# Altium schematic symbol library Acoustics.SchLib: 19 symbols
Pins are listed as number, name and electrical type; pins without a type are passive.

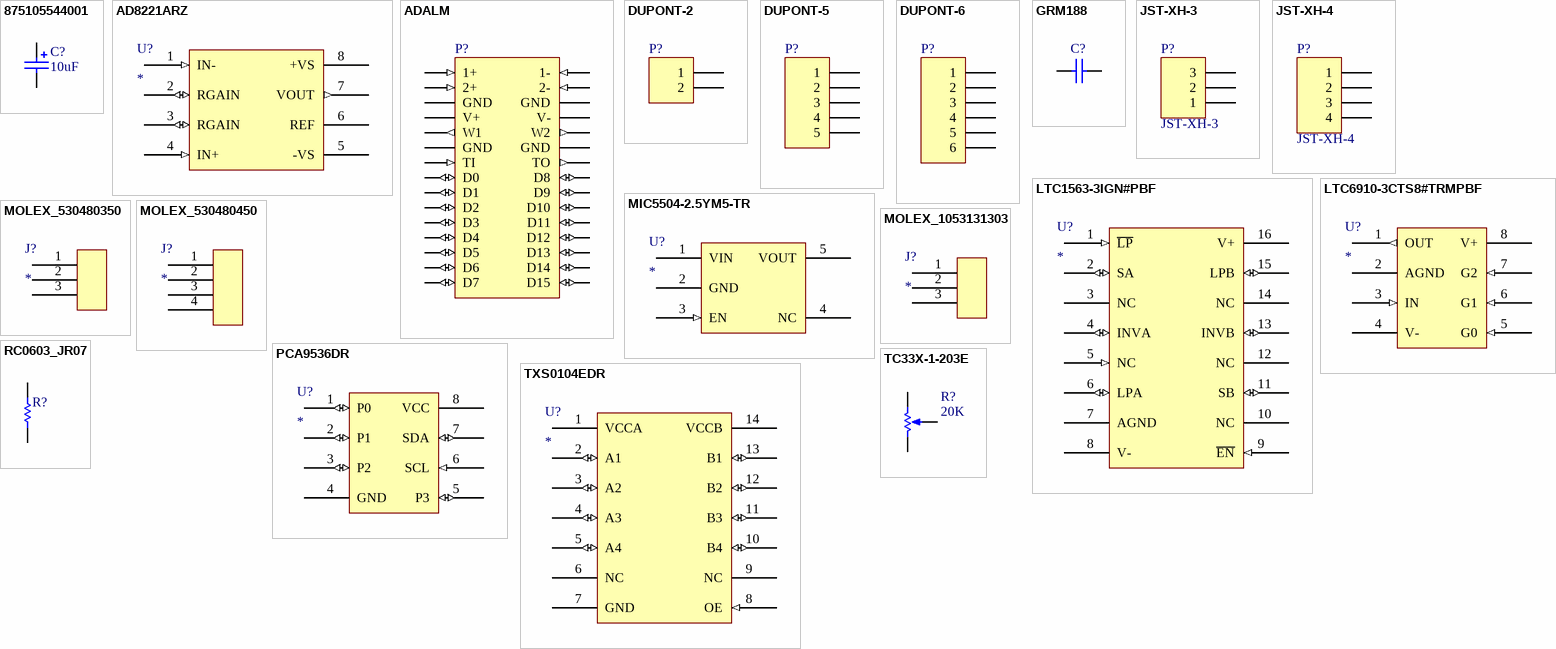
[diagram p0: symbols 875105544001 to TXS0104EDR]

## 875105544001
designator C?, comment 10uF
CAP ALUM POLY 10UF 20% 25V SMD; Published: 8-Jun-2000; LatestRevisionDate: 17-Jul-2002; LatestRevisionNote: Re-released for DXP Platform.; PackageReference: RB7.6-15; Publisher: Altium Limited; PackageDescription: Polarized Capacitor (Radial); 2 Leads; Value: 10uF
simulation model CAP (Capacitor)
signal-integrity model Cap Pol
footprint CAPAE7666X58M (Aluminum Electrolytic Capacitor, Body 6.60x6.60x5.80mm, IPC Low Density)
pins: 1, 2
1 alternate drawing of the same symbol

## AD8221ARZ
designator U?
IC INST AMP 1 CIRCUIT 8SOIC; ComponentLink1Description: New link; ComponentLink1URL: https://www.analog.com/media/en/technical-documentation/data-sheets/AD8221.pdf
footprint SOIC127P600X150-8M (SOIC, 8-Leads, Body 4.90x3.90mm, Pitch 1.27mm, IPC Low Density)
pins: 1 IN- (in), 2 RGAIN (io), 3 RGAIN (io), 4 IN+ (in), 5 -VS (power), 6 REF (power), 7 VOUT (out), 8 +VS (power)

## ADALM
designator P?
Vertical ADALM2000 2x15 Header; LatestRevisionDate: 17-Jul-2002; LatestRevisionNote: Re-released for DXP Platform.; Publisher: Altium Limited
signal-integrity model Connector
footprint ADALM
pins: 1 1+ (in), 2 1- (in), 3 2+ (in), 4 2- (in), 5 GND (power), 6 GND (power), 7 V+ (power), 8 V- (power), 9 W1 (out), 10 W2 (out), 11 GND (power), 12 GND (power), 13 TI (in), 14 TO (out), 15 D0 (io), 16 D8 (io), 17 D1 (io), 18 D9 (io), 19 D2 (io), 20 D10 (io), 21 D3 (io), 22 D11 (io), 23 D4 (io), 24 D12 (io), 25 D5 (io), 26 D13 (io), 27 D6 (io), 28 D14 (io), 29 D7 (io), 30 D15 (io)

## DUPONT-2
designator P?
2-Pin Dupont Header; LatestRevisionDate: 17-Jul-2002; LatestRevisionNote: Re-released for DXP Platform.; Publisher: Altium Limited
signal-integrity model Connector
footprint DUPONT-2
pins: 1, 2

## DUPONT-5
designator P?
5-Pin Dupont Header; LatestRevisionDate: 17-Jul-2002; LatestRevisionNote: Re-released for DXP Platform.; Publisher: Altium Limited
signal-integrity model Connector
footprint DUPONT-5
pins: 1, 2, 3, 4, 5

## DUPONT-6
designator P?
6-Pin Dupont Header; LatestRevisionDate: 17-Jul-2002; LatestRevisionNote: Re-released for DXP Platform.; Publisher: Altium Limited
signal-integrity model Connector
footprint DUPONT-6
pins: 1, 2, 3, 4, 5, 6

## GRM188
designator C?
GRM188 0603(1.6mm*0.8mm) ±5% and ±10% (15pF-2.2uF) SMD Capacitor; Published: 8-Jun-2000; LatestRevisionDate: 17-Jul-2002; LatestRevisionNote: Re-released for DXP Platform.; PackageReference: RAD-0.3; Publisher: Altium Limited; PackageDescription: Radial Cap, Thru-Hole; 2 Leads; 0.3 in Pin Spacing
simulation model CAP (Capacitor)
signal-integrity model Cap
footprint CAPC1608X10M (Chip Capacitor, 2-Leads, Body 1.60x0.80mm, IPC Low Density)
pins: 1, 2

## JST-XH-3
designator P?
CONN HEADER VERT 3POS; LatestRevisionDate: 17-Jul-2002; LatestRevisionNote: Re-released for DXP Platform.; Publisher: Altium Limited
signal-integrity model Connector
footprint JST-XH-3
pins: 1, 2, 3

## JST-XH-4
designator P?
CONN HEADER VERT 4POS; LatestRevisionDate: 17-Jul-2002; LatestRevisionNote: Re-released for DXP Platform.; Publisher: Altium Limited
signal-integrity model Connector
footprint JST-XH-4
pins: 1, 2, 3, 4

## LTC1563-3IGN#PBF
designator U?
IC FILTER 256KHZ LOWPASS BESSEL 16SSOP; ComponentLink1Description: Datasheet; ComponentLink1URL: https://www.analog.com/media/en/technical-documentation/data-sheets/156323fa.pdf
footprint SOP64P600X175-16M (SOP, 16-Leads, Body 4.89x3.90mm, Pitch 0.64mm, IPC Low Density)
pins: 1 ~{LP} (in), 2 SA (io), 3 NC (power), 4 INVA (io), 5 NC (in), 6 LPA (io), 7 AGND (power), 8 V- (power), 9 ~{EN} (in), 10 NC (power), 11 SB (io), 12 NC (power), 13 INVB (io), 14 NC (power), 15 LPB (io), 16 V+ (power)

## LTC6910-3CTS8#TRMPBF
designator U?
Programmable Gain Amplifier 1 Circuit Rail-to-Rail TSOT-23-8; ComponentLink1Description: Datasheet; ComponentLink1URL: https://www.analog.com/media/en/technical-documentation/data-sheets/6910fb.pdf
footprint TSOP65P280X100-8M (TSOP, 8-Leads, Body 2.90x1.63mm, Pitch 0.65mm, IPC Low Density)
pins: 1 OUT (out), 2 AGND (power), 3 IN (in), 4 V- (power), 5 G0 (in), 6 G1 (in), 7 G2 (in), 8 V+ (power)

## MIC5504-2.5YM5-TR
designator U?
IC REG LINEAR 2.5V 300MA SOT23-5; ComponentLink1Description: Datasheet; ComponentLink1URL: https://ww1.microchip.com/downloads/en/DeviceDoc/MIC5501-02-03-04-300mA-Single-Output-LDO-in-Small-Packages-DS20006006B.pdf
footprint SOT95P280X130-5M (SOT23, 5-Leads, Body 2.90x2.80mm, Pitch 0.95mm, IPC Low Density)
pins: 1 VIN (power), 2 GND (power), 3 EN (in), 4 NC (power), 5 VOUT (power)

## MOLEX_530480350
designator J?
footprint MOLEX_530480350
pins: 1, 2, 3

## MOLEX_530480450
designator J?
footprint MOLEX_530480450
pins: 1, 2, 3, 4

## MOLEX_1053131303
designator J?
footprint MOLEX_1053131303
pins: 1 (power), 2 (power), 3 (power)

## PCA9536DR
designator U?
I/O Expander 4 I²C, SMBus 400 kHz 8-SOIC; ComponentLink1Description: Datasheet; ComponentLink1URL: https://www.ti.com/general/docs/suppproductinfo.tsp?distId=10&gotoUrl=https%3A%2F%2Fwww.ti.com%2Flit%2Fgpn%2Fpca9536
pins: 1 P0 (io), 2 P1 (io), 3 P2 (io), 4 GND (power), 5 P3 (io), 6 SCL (in), 7 SDA (io), 8 VCC (power)

## RC0603_JR07
designator R?
RC0603 JR-07 0603 (1.6mm*0.8mm) ±1% 1% (0R-4.7MR) chip resistor; Published: 8-Jun-2000; LatestRevisionDate: 17-Jul-2002; LatestRevisionNote: Re-released for DXP Platform.; PackageReference: AXIAL-0.3; Publisher: Altium Limited; PackageDescription: Axial Device, Thru-Hole; 2 Leads; 0.3 in Pin Spacing
simulation model RESISTOR (Resistor)
signal-integrity model RC0603_JR07
footprint RESC1608X06M (Chip Resistor, 2-Leads, Body 1.60x0.80mm, IPC Low Density)
pins: 1, 2

## TC33X-1-203E
designator R?, comment 20K
TRIMMER 20K OHM 0.1W J LEAD TOP; Sim Note: Enter the Resistance value and the set point into parameter fields.; Set Position: 0.5; Published: 8-Jun-2000; LatestRevisionDate: 17-Jul-2002; LatestRevisionNote: Re-released for DXP Platform.; PackageReference: VR5; Publisher: Altium Limited; PackageDescription: Variable Resistor, Thru-Hole; 3 Leads; Value: 20K
simulation model POT (Potentiometer)
footprint TC33X-1_BRN; pin to pad 2>3 3>2
pins: 1 TOP, 2 BOT, 3 TAP
1 alternate drawing of the same symbol

## TXS0104EDR
designator U?
Voltage Level Translator Bidirectional 1 Circuit 4 Channel 24Mbps 14-SOIC; ComponentLink1Description: Datasheet; ComponentLink1URL: https://www.ti.com/general/docs/suppproductinfo.tsp?distId=10&gotoUrl=https%3A%2F%2Fwww.ti.com%2Flit%2Fgpn%2Ftxs0104e
footprint SOIC127P600X175-14M (SOIC, 14-Leads, Body 8.65x3.90mm, Pitch 1.27mm, IPC Low Density)
pins: 1 VCCA (power), 2 A1 (io), 3 A2 (io), 4 A3 (io), 5 A4 (io), 6 NC (power), 7 GND (power), 8 OE (in), 9 NC (power), 10 B4 (io), 11 B3 (io), 12 B2 (io), 13 B1 (io), 14 VCCB (power)